# EAGLE library part MOSAIC (library Mosaic)
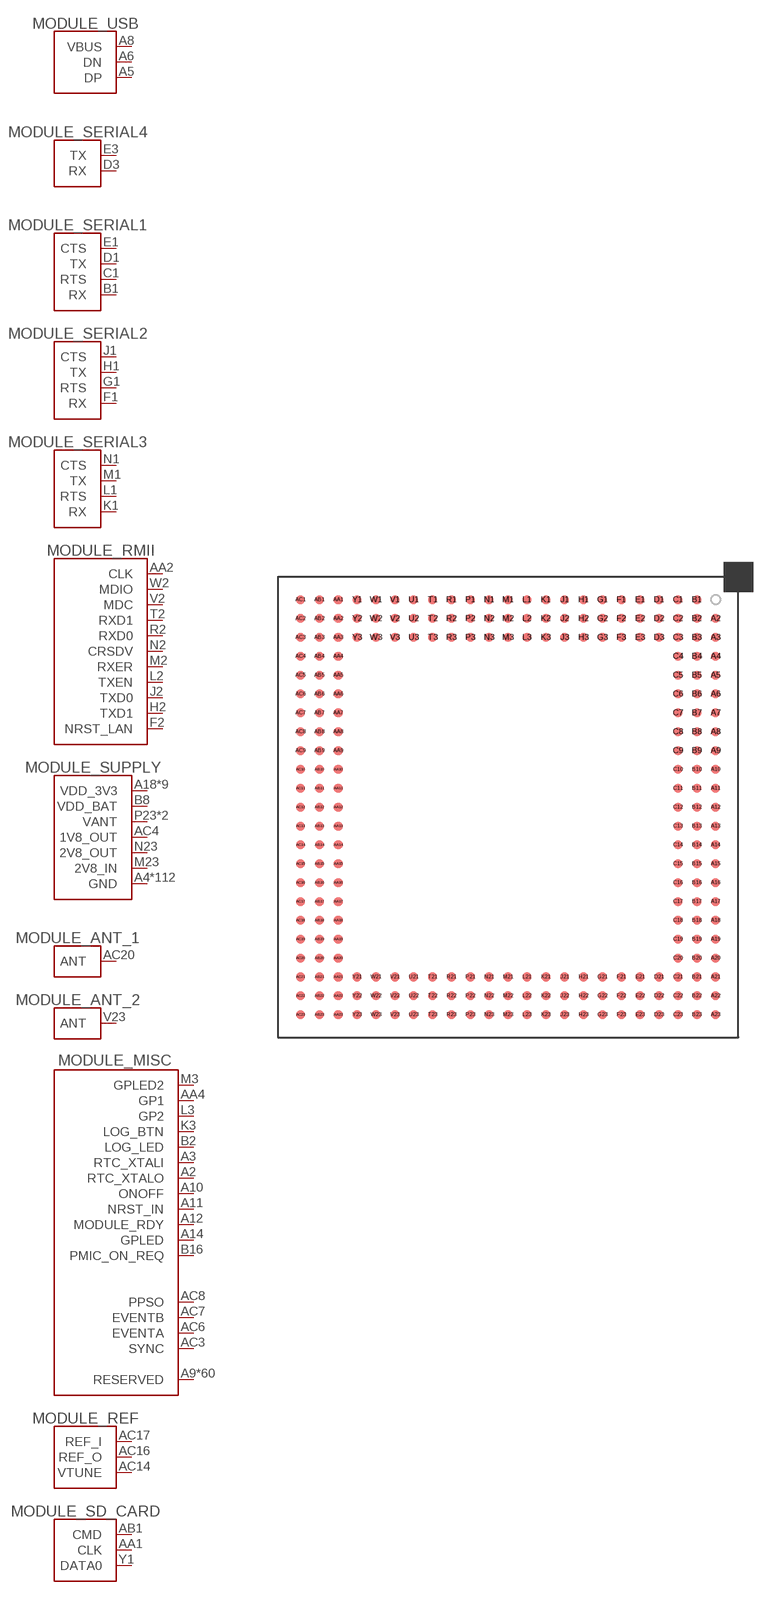
[diagram p0: symbol with the pads of MOSAIC; footprint MOSAIC]

Designator prefix MODULE; gates _USB=USB _SERIAL4=SERIAL _SERIAL1=SERIAL_FULL _SERIAL2=SERIAL_FULL _SERIAL3=SERIAL_FULL _RMII=RMII _SUPPLY=SUPPLY _ANT_1=ANTENNA _ANT_2=ANTENNA _MISC=MISC _REF=REF _SD_CARD=SD_CARD

## MOSAIC (MANF: Septenrio; MANF#: MOSAIC)  [MOSAIC]
A2  _MISC:RTC_XTALO
A3  _MISC:RTC_XTALI
A4  _SUPPLY:GND
A5  _USB:DP
A6  _USB:DN
A7  _SUPPLY:GND
A8  _USB:VBUS
A9  _MISC:RESERVED
A10  _MISC:ONOFF
A11  _MISC:NRST_IN
A12  _MISC:MODULE_RDY
A13  _MISC:RESERVED
A14  _MISC:GPLED
A15  _SUPPLY:GND
A16  _SUPPLY:GND
A17  _SUPPLY:GND
A18  _SUPPLY:VDD_3V3
A19  _SUPPLY:VDD_3V3
A20  _SUPPLY:VDD_3V3
A21  _SUPPLY:GND
A22  _SUPPLY:GND
A23  _SUPPLY:GND
AA1  _SD_CARD:CLK
AA2  _RMII:CLK
AA3  _MISC:RESERVED
AA4  _MISC:GP1
AA5  _MISC:RESERVED
AA6  _MISC:RESERVED
AA7  _MISC:RESERVED
AA8  _MISC:RESERVED
AA9  _MISC:RESERVED
AA10  _MISC:RESERVED
AA11  _MISC:RESERVED
AA12  _MISC:RESERVED
AA13  _SUPPLY:GND
AA14  _SUPPLY:GND
AA15  _SUPPLY:GND
AA16  _SUPPLY:GND
AA17  _SUPPLY:GND
AA18  _SUPPLY:GND
AA19  _SUPPLY:GND
AA20  _SUPPLY:GND
AA21  _SUPPLY:GND
AA22  _SUPPLY:GND
AA23  _SUPPLY:GND
AB1  _SD_CARD:CMD
AB2  _SUPPLY:GND
AB3  _SUPPLY:GND
AB4  _SUPPLY:GND
AB5  _SUPPLY:GND
AB6  _SUPPLY:GND
AB7  _SUPPLY:GND
AB8  _SUPPLY:GND
AB9  _MISC:RESERVED
AB10  _MISC:RESERVED
AB11  _MISC:RESERVED
AB12  _MISC:RESERVED
AB13  _SUPPLY:GND
AB14  _SUPPLY:GND
AB15  _SUPPLY:GND
AB16  _SUPPLY:GND
AB17  _SUPPLY:GND
AB18  _SUPPLY:GND
AB19  _SUPPLY:GND
AB20  _SUPPLY:GND
AB21  _SUPPLY:GND
AB22  _SUPPLY:GND
AB23  _SUPPLY:GND
AC1  _MISC:RESERVED
AC2  _MISC:RESERVED
AC3  _MISC:SYNC
AC4  _SUPPLY:1V8_OUT
AC5  _MISC:RESERVED
AC6  _MISC:EVENTA
AC7  _MISC:EVENTB
AC8  _MISC:PPSO
AC9  _MISC:RESERVED
AC10  _MISC:RESERVED
AC11  _MISC:RESERVED
AC12  _MISC:RESERVED
AC13  _SUPPLY:GND
AC14  _REF:VTUNE
AC15  _SUPPLY:GND
AC16  _REF:REF_O
AC17  _REF:REF_I
AC18  _SUPPLY:GND
AC19  _SUPPLY:GND
AC20  _ANT_1:ANT
AC21  _SUPPLY:GND
AC22  _SUPPLY:GND
AC23  _SUPPLY:GND
B1  _SERIAL1:RX
B2  _MISC:LOG_LED
B3  _MISC:RESERVED
B4  _SUPPLY:GND
B5  _SUPPLY:GND
B6  _SUPPLY:GND
B7  _SUPPLY:GND
B8  _SUPPLY:VDD_BAT
B9  _MISC:RESERVED
B10  _MISC:RESERVED
B11  _MISC:RESERVED
B12  _MISC:RESERVED
B13  _SUPPLY:GND
B14  _MISC:RESERVED
B15  _MISC:RESERVED
B16  _MISC:PMIC_ON_REQ
B17  _SUPPLY:GND
B18  _SUPPLY:VDD_3V3
B19  _SUPPLY:VDD_3V3
B20  _SUPPLY:VDD_3V3
B21  _SUPPLY:GND
B22  _MISC:RESERVED
B23  _MISC:RESERVED
C1  _SERIAL1:RTS
C2  _MISC:RESERVED
C3  _MISC:RESERVED
C4  _SUPPLY:GND
C5  _MISC:RESERVED
C6  _MISC:RESERVED
C7  _SUPPLY:GND
C8  _MISC:RESERVED
C9  _MISC:RESERVED
C10  _MISC:RESERVED
C11  _MISC:RESERVED
C12  _MISC:RESERVED
C13  _MISC:RESERVED
C14  _MISC:RESERVED
C15  _SUPPLY:GND
C16  _SUPPLY:GND
C17  _SUPPLY:GND
C18  _SUPPLY:VDD_3V3
C19  _SUPPLY:VDD_3V3
C20  _SUPPLY:VDD_3V3
C21  _MISC:RESERVED
C22  _MISC:RESERVED
C23  _SUPPLY:GND
D1  _SERIAL1:TX
D2  _SUPPLY:GND
D3  _SERIAL4:RX
D21  _SUPPLY:GND
D22  _SUPPLY:GND
D23  _SUPPLY:GND
E1  _SERIAL1:CTS
E2  _SUPPLY:GND
E3  _SERIAL4:TX
E21  _SUPPLY:GND
E22  _SUPPLY:GND
E23  _SUPPLY:GND
F1  _SERIAL2:RX
F2  _RMII:NRST_LAN
F3  _MISC:RESERVED
F21  _SUPPLY:GND
F22  _SUPPLY:GND
F23  _SUPPLY:GND
G1  _SERIAL2:RTS
G2  _SUPPLY:GND
G3  _MISC:RESERVED
G21  _SUPPLY:GND
G22  _MISC:RESERVED
G23  _SUPPLY:GND
H1  _SERIAL2:TX
H2  _RMII:TXD1
H3  _MISC:RESERVED
H21  _SUPPLY:GND
H22  _SUPPLY:GND
H23  _SUPPLY:GND
J1  _SERIAL2:CTS
J2  _RMII:TXD0
J3  _MISC:RESERVED
J21  _SUPPLY:GND
J22  _SUPPLY:GND
J23  _SUPPLY:GND
K1  _SERIAL3:RX
K2  _SUPPLY:GND
K3  _MISC:LOG_BTN
K21  _SUPPLY:GND
K22  _SUPPLY:GND
K23  _SUPPLY:GND
L1  _SERIAL3:RTS
L2  _RMII:TXEN
L3  _MISC:GP2
L21  _SUPPLY:GND
L22  _SUPPLY:GND
L23  _SUPPLY:GND
M1  _SERIAL3:TX
M2  _RMII:RXER
M3  _MISC:GPLED2
M21  _SUPPLY:GND
M22  _SUPPLY:GND
M23  _SUPPLY:2V8_IN
N1  _SERIAL3:CTS
N2  _RMII:CRSDV
N3  _MISC:RESERVED
N21  _SUPPLY:GND
N22  _SUPPLY:GND
N23  _SUPPLY:2V8_OUT
P1  _SUPPLY:GND
P2  _SUPPLY:GND
P3  _SUPPLY:GND
P21  _SUPPLY:GND
P22  _SUPPLY:GND
P23  _SUPPLY:VANT
R1  _MISC:RESERVED
R2  _RMII:RXD0
R3  _SUPPLY:GND
R21  _SUPPLY:GND
R22  _SUPPLY:GND
R23  _SUPPLY:VANT
T1  _MISC:RESERVED
T2  _RMII:RXD1
T3  _MISC:RESERVED
T21  _SUPPLY:GND
T22  _SUPPLY:GND
T23  _SUPPLY:GND
U1  _MISC:RESERVED
U2  _SUPPLY:GND
U3  _MISC:RESERVED
U21  _SUPPLY:GND
U22  _SUPPLY:GND
U23  _SUPPLY:GND
V1  _MISC:RESERVED
V2  _RMII:MDC
V3  _MISC:RESERVED
V21  _SUPPLY:GND
V22  _SUPPLY:GND
V23  _ANT_2:ANT
W1  _MISC:RESERVED
W2  _RMII:MDIO
W3  _MISC:RESERVED
W21  _SUPPLY:GND
W22  _SUPPLY:GND
W23  _SUPPLY:GND
Y1  _SD_CARD:DATA0
Y2  _SUPPLY:GND
Y3  _MISC:RESERVED
Y21  _SUPPLY:GND
Y22  _SUPPLY:GND
Y23  _SUPPLY:GND

## Footprint MOSAIC (pad centres in mm)
smd 0.6 x 0.6: A2 13.97,12.7; A3 13.97,11.43; A4 13.97,10.16; A5 13.97,8.89; A6 13.97,7.62; A7 13.97,6.35; A8 13.97,5.08; A9 13.97,3.81; A10 13.97,2.54; A11 13.97,1.27; A12 13.97,0; A13 13.97,-1.27; A14 13.97,-2.54; A15 13.97,-3.81; A16 13.97,-5.08; A17 13.97,-6.35; A18 13.97,-7.62; A19 13.97,-8.89; A20 13.97,-10.16; A21 13.97,-11.43; A22 13.97,-12.7; A23 13.97,-13.97; AA1 -11.43,13.97; AA2 -11.43,12.7; AA3 -11.43,11.43; AA4 -11.43,10.16; AA5 -11.43,8.89; AA6 -11.43,7.62; AA7 -11.43,6.35; AA8 -11.43,5.08; AA9 -11.43,3.81; AA10 -11.43,2.54; AA11 -11.43,1.27; AA12 -11.43,0; AA13 -11.43,-1.27; AA14 -11.43,-2.54; AA15 -11.43,-3.81; AA16 -11.43,-5.08; AA17 -11.43,-6.35; AA18 -11.43,-7.62; AA19 -11.43,-8.89; AA20 -11.43,-10.16; AA21 -11.43,-11.43; AA22 -11.43,-12.7; AA23 -11.43,-13.97; AB1 -12.7,13.97; AB2 -12.7,12.7; AB3 -12.7,11.43; AB4 -12.7,10.16; AB5 -12.7,8.89; AB6 -12.7,7.62; AB7 -12.7,6.35; AB8 -12.7,5.08; AB9 -12.7,3.81; AB10 -12.7,2.54; AB11 -12.7,1.27; AB12 -12.7,0; AB13 -12.7,-1.27; AB14 -12.7,-2.54; AB15 -12.7,-3.81; AB16 -12.7,-5.08; AB17 -12.7,-6.35; AB18 -12.7,-7.62; AB19 -12.7,-8.89; AB20 -12.7,-10.16; AB21 -12.7,-11.43; AB22 -12.7,-12.7; AB23 -12.7,-13.97; AC1 -13.97,13.97; AC2 -13.97,12.7; AC3 -13.97,11.43; AC4 -13.97,10.16; AC5 -13.97,8.89; AC6 -13.97,7.62; AC7 -13.97,6.35; AC8 -13.97,5.08; AC9 -13.97,3.81; AC10 -13.97,2.54; AC11 -13.97,1.27; AC12 -13.97,0; AC13 -13.97,-1.27; AC14 -13.97,-2.54; AC15 -13.97,-3.81; AC16 -13.97,-5.08; AC17 -13.97,-6.35; AC18 -13.97,-7.62; AC19 -13.97,-8.89; AC20 -13.97,-10.16; AC21 -13.97,-11.43; AC22 -13.97,-12.7; AC23 -13.97,-13.97; B1 12.7,13.97; B2 12.7,12.7; B3 12.7,11.43; B4 12.7,10.16; B5 12.7,8.89; B6 12.7,7.62; B7 12.7,6.35; B8 12.7,5.08; B9 12.7,3.81; B10 12.7,2.54; B11 12.7,1.27; B12 12.7,0; B13 12.7,-1.27; B14 12.7,-2.54; B15 12.7,-3.81; B16 12.7,-5.08; B17 12.7,-6.35; B18 12.7,-7.62; B19 12.7,-8.89; B20 12.7,-10.16; B21 12.7,-11.43; B22 12.7,-12.7; B23 12.7,-13.97; C1 11.43,13.97; C2 11.43,12.7; C3 11.43,11.43; C4 11.43,10.16; C5 11.43,8.89; C6 11.43,7.62; C7 11.43,6.35; C8 11.43,5.08; C9 11.43,3.81; C10 11.43,2.54; C11 11.43,1.27; C12 11.43,0; C13 11.43,-1.27; C14 11.43,-2.54; C15 11.43,-3.81; C16 11.43,-5.08; C17 11.43,-6.35; C18 11.43,-7.62; C19 11.43,-8.89; C20 11.43,-10.16; C21 11.43,-11.43; C22 11.43,-12.7; C23 11.43,-13.97; D1 10.16,13.97; D2 10.16,12.7; D3 10.16,11.43; D21 10.16,-11.43; D22 10.16,-12.7; D23 10.16,-13.97; E1 8.89,13.97; E2 8.89,12.7; E3 8.89,11.43; E21 8.89,-11.43; E22 8.89,-12.7; E23 8.89,-13.97; F1 7.62,13.97; F2 7.62,12.7; F3 7.62,11.43; F21 7.62,-11.43; F22 7.62,-12.7; F23 7.62,-13.97; G1 6.35,13.97; G2 6.35,12.7; G3 6.35,11.43; G21 6.35,-11.43; G22 6.35,-12.7; G23 6.35,-13.97; H1 5.08,13.97; H2 5.08,12.7; H3 5.08,11.43; H21 5.08,-11.43; H22 5.08,-12.7; H23 5.08,-13.97; J1 3.81,13.97; J2 3.81,12.7; J3 3.81,11.43; J21 3.81,-11.43; J22 3.81,-12.7; J23 3.81,-13.97; K1 2.54,13.97; K2 2.54,12.7; K3 2.54,11.43; K21 2.54,-11.43; K22 2.54,-12.7; K23 2.54,-13.97; L1 1.27,13.97; L2 1.27,12.7; L3 1.27,11.43; L21 1.27,-11.43; L22 1.27,-12.7; L23 1.27,-13.97; M1 0,13.97; M2 0,12.7; M3 0,11.43; M21 0,-11.43; M22 0,-12.7; M23 0,-13.97; N1 -1.27,13.97; N2 -1.27,12.7; N3 -1.27,11.43; N21 -1.27,-11.43; N22 -1.27,-12.7; N23 -1.27,-13.97; P1 -2.54,13.97; P2 -2.54,12.7; P3 -2.54,11.43; P21 -2.54,-11.43; P22 -2.54,-12.7; P23 -2.54,-13.97; R1 -3.81,13.97; R2 -3.81,12.7; R3 -3.81,11.43; R21 -3.81,-11.43; R22 -3.81,-12.7; R23 -3.81,-13.97; T1 -5.08,13.97; T2 -5.08,12.7; T3 -5.08,11.43; T21 -5.08,-11.43; T22 -5.08,-12.7; T23 -5.08,-13.97; U1 -6.35,13.97; U2 -6.35,12.7; U3 -6.35,11.43; U21 -6.35,-11.43; U22 -6.35,-12.7; U23 -6.35,-13.97; V1 -7.62,13.97; V2 -7.62,12.7; V3 -7.62,11.43; V21 -7.62,-11.43; V22 -7.62,-12.7; V23 -7.62,-13.97; W1 -8.89,13.97; W2 -8.89,12.7; W3 -8.89,11.43; W21 -8.89,-11.43; W22 -8.89,-12.7; W23 -8.89,-13.97; Y1 -10.16,13.97; Y2 -10.16,12.7; Y3 -10.16,11.43; Y21 -10.16,-11.43; Y22 -10.16,-12.7; Y23 -10.16,-13.97